# EAGLE library part TLV1805 (library TLV1805)
TLV1805-Q1 3.3-40v 100mA comparator with rail-rail inputs and shutdown Quiescent current: typ 135µA, max 400µA
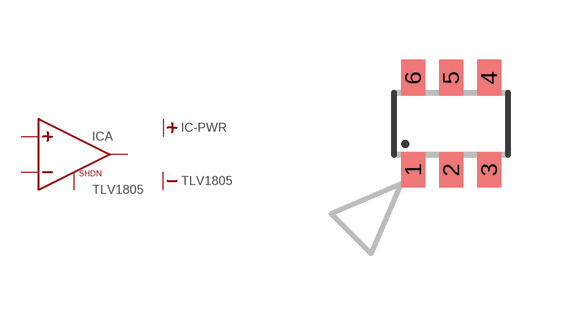
[diagram p0: symbol with the pads of SOT23-6; footprint SOT23-6]

Designator prefix IC; gates A=OPAMP_SHDN -PWR=PWR

## TLV1805-Q1 (MARK: 1ULF; MF: Texas Instruments; MPN: TLV1805QDBVRQ1)  [SOT23-6]
1  A:OUT  out
2  -PWR:V-  pwr
3  A:INV  in
4  A:NINV  in
5  A:SHDN  in
6  -PWR:V+  pwr

## Footprint SOT23-6 (pad centres in mm)
Small Outline Transistor 6 lead
smd 0.6 x 0.9: 1 -0.95,-1.15; 2 0,-1.15; 3 0.95,-1.15; 4 0.95,1.15; 5 0,1.15; 6 -0.95,1.15